# EAGLE library part PW0316 (library MyLibrary)
BCTS: data arrived signal, uses for wake up the master; BRTS: data send request, uses for wake up this module.
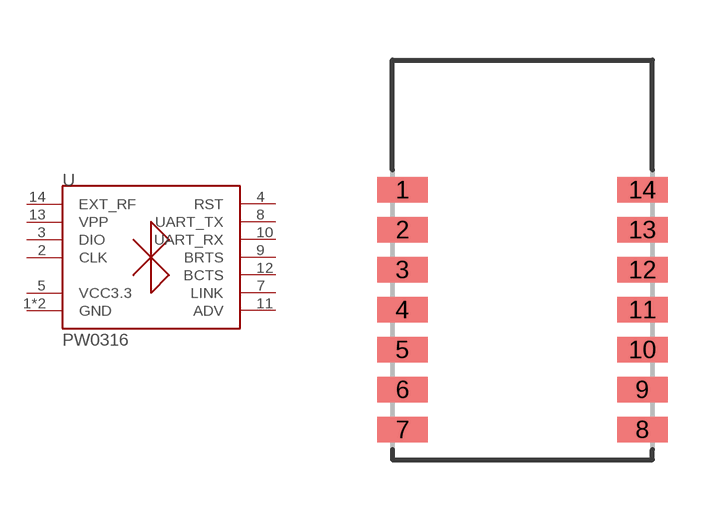
[diagram p16: symbol with the pads of PW0316; footprint PW0316]

Designator prefix U

## PW0316  [PW0316]
1  GND
2  CLK
3  DIO
4  RST
5  VCC3.3
6  GND
7  LINK
8  UART_TX
9  BRTS
10  UART_RX
11  ADV
12  BCTS
13  VPP
14  EXT_RF

## Footprint PW0316 (pad centres in mm)
smd 1.27 x 0.635: 1 -3,1.75; 2 -3,0.75; 3 -3,-0.25; 4 -3,-1.25; 5 -3,-2.25; 6 -3,-3.25; 7 -3,-4.25; 8 3,-4.25; 9 3,-3.25; 10 3,-2.25; 11 3,-1.25; 12 3,-0.25; 13 3,0.75; 14 3,1.75